# Altium footprint library MftrFeature.PcbLib: 4 footprints
Each footprint in its own frame and in the unit in brackets; x right, y up, seen from the top. Pads: shape width x height; smd on the part's side, far side on the other; paste and mask are expansions set on the pad; w line width, h text height; cw(c..) or ccw(c..) is an arc to the next point about the centre after c.
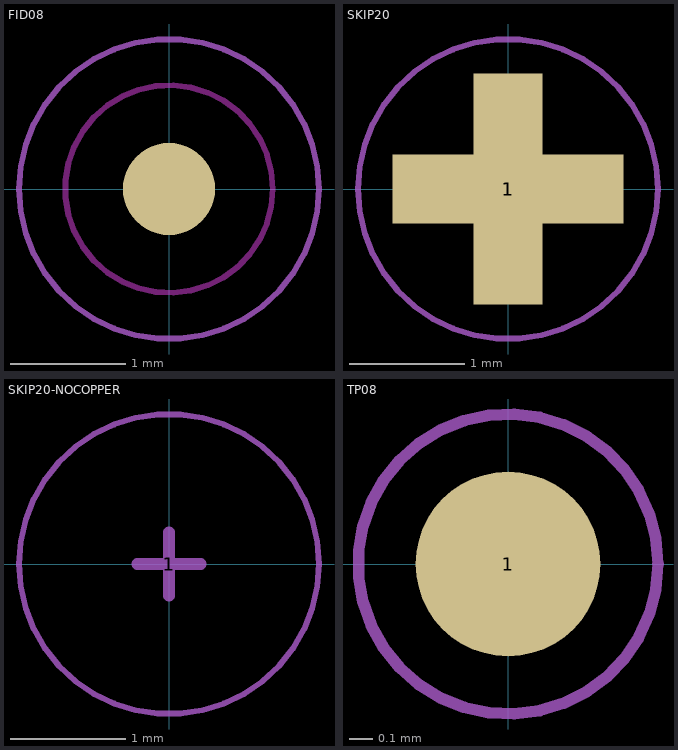
[diagram p0: the footprints below, top view; thin cyan lines are the x and y axes]

## FID08 [mm] "0.8mm diameter fiducial, 1.8mm keepout"
pads (1):
  round 0.8 smd paste-1 mask+0.4: ""(0,0)
Top Layer keep-out:
  circle w0.05: c0,0 r0.9
Mechanical 6:
  text "'.Designator'" at -0.635,-0.127 h0.3
Mechanical 8:
  circle w0.05: c0,0 r1.3
Mechanical 15:
  circle w0.05: c0,0 r1.3
  lines w0.1: -0.275,0 0.275,0 ; 0,-0.275 0,0.275

## SKIP20 [mm] "Skip Mark, 2.0mm width"
pads (2):
  rect 2x0.6 smd paste-1 mask+0.1: 1(0,0)
  rect 0.6x2 smd paste-1 mask+0.1: 1(0,0)
Mechanical 6:
  text "'.Designator'" at -0.762,-0.127 h0.3
Mechanical 8:
  circle w0.05: c0,0 r1.3
Mechanical 15:
  circle w0.05: c0,0 r1.3
  lines w0.1: -0.275,0 0.275,0 ; 0,-0.275 0,0.275

## SKIP20-NOCOPPER [mm] "Skip Mark, 2.0mm width, no copper"
pads (2):
  rect 0.6x2 on Top Solder paste-1 mask+0: 1(0,0)
  rect 2x0.6 on Top Solder paste-1 mask+0: 1(0,0)
Mechanical 6:
  text "'.Designator'" at -0.635,-0.127 h0.3
Mechanical 8:
  circle w0.05: c0,0 r1.3
Mechanical 15:
  circle w0.05: c0,0 r1.3
  lines w0.1: -0.275,0 0.275,0 ; 0,-0.275 0,0.275

## TP08 [mm] "0.8mm Testpoint"
pads (1):
  round 0.8 smd paste-1: 1(0,0)
Mechanical 15:
  circle w0.05: c0,0 r0.65
  lines w0.1: -0.275,0 0.275,0 ; 0,-0.275 0,0.275
Mechanical 19:
  circle w0.05: c0,0 r0.65
  text "'.Designator'" at -0.55,-0.125 h0.25